# EAGLE library part PROMINIV2NOFTDI (library Jordan Boards)
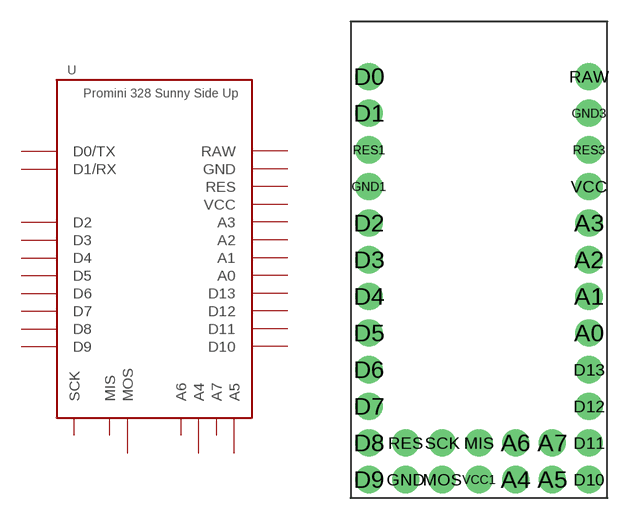
[diagram p5: symbol with the pads of PROMINIV2NOFTDI; footprint PROMINIV2NOFTDI]

Designator prefix -

## PROMINIV2NOFTDI  [PROMINIV2NOFTDI]
A0  A0
A1  A1
A2  A2
A3  A3
A4  A4
A5  A5
A6  A6
A7  A7
D0  D0/TX
D1  D1/RX
D2  D2
D3  D3
D4  D4
D5  D5
D6  D6
D7  D7
D8  D8
D9  D9
D10  D10
D11  D11
D12  D12
D13  D13
GND  GND
GND1  GND
GND3  GND
MIS  MIS
MOS  MOS
RAW  RAW
RES  RES
RES1  RES
RES3  RES
SCK  SCK
VCC  VCC
VCC1  VCC

## Footprint PROMINIV2NOFTDI (pad centres in mm)
drill 1.016 pad 1.88: A0 7.62,-7.62; A1 7.62,-5.08; A2 7.62,-2.54; A3 7.62,0; A4 2.54,-17.78; A5 5.08,-17.78; A6 2.54,-15.24; A7 5.08,-15.24; D0 -7.62,10.16; D1 -7.62,7.62; D2 -7.62,0; D3 -7.62,-2.54; D4 -7.62,-5.08; D5 -7.62,-7.62; D6 -7.62,-10.16; D7 -7.62,-12.7; D8 -7.62,-15.24; D9 -7.62,-17.78; D10 7.62,-17.78; D11 7.62,-15.24; D12 7.62,-12.7; D13 7.62,-10.16; GND -5.08,-17.78; GND1 -7.62,2.54; GND3 7.62,7.62; MIS 0,-15.24; MOS -2.54,-17.78; RAW 7.62,10.16; RES -5.08,-15.24; RES1 -7.62,5.08; RES3 7.62,5.08; SCK -2.54,-15.24; VCC 7.62,2.54; VCC1 0,-17.78